# Altium footprint library digital.PcbLib: 2 footprints
Each footprint in its own frame and in the unit in brackets; x right, y up, seen from the top. Pads: shape width x height; smd on the part's side, far side on the other; paste and mask are expansions set on the pad; w line width, h text height; cw(c..) or ccw(c..) is an arc to the next point about the centre after c.
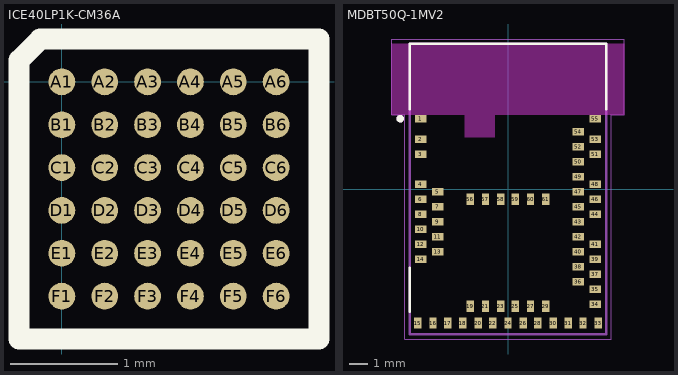
[diagram p0: the footprints below, top view; thin cyan lines are the x and y axes]

## ICE40LP1K-CM36A [mm]
pads (36):
  round 0.25 smd mask+0: A1(0,0) A2(0.4,0) A3(0.8,0) A4(1.2,0) A5(1.6,0) A6(2,0) B1(0,-0.4) B2(0.4,-0.4) B3(0.8,-0.4) B4(1.2,-0.4) B5(1.6,-0.4) B6(2,-0.4) C1(0,-0.8) C2(0.4,-0.8) C3(0.8,-0.8) C4(1.2,-0.8) C5(1.6,-0.8) C6(2,-0.8) D1(0,-1.2) D2(0.4,-1.2) D3(0.8,-1.2) D4(1.2,-1.2) D5(1.6,-1.2) D6(2,-1.2) E1(0,-1.6) E2(0.4,-1.6) E3(0.8,-1.6) E4(1.2,-1.6) E5(1.6,-1.6) E6(2,-1.6) F1(0,-2) F2(0.4,-2) F3(0.8,-2) F4(1.2,-2) F5(1.6,-2) F6(2,-2)
Top Overlay:
  lines w0.2: -0.4,-2.4 -0.4,0.2 -0.2,0.4 2.4,0.4 2.4,-2.4 -0.4,-2.4

## MDBT50Q-1MV2 [mm] "Embedded 2.4GHz transceiver support Bluetooth V5.0 and 802.15.4"
pads (61):
  rect 0.6x0.4 smd: 1(-4.65,3.75) 2(-4.65,2.65) 3(-4.65,1.85) 4(-4.65,0.25) 5(-3.75,-0.15) 6(-4.65,-0.55) 7(-3.75,-0.95) 8(-4.65,-1.35) 9(-3.75,-1.75) 10(-4.65,-2.15) 11(-3.75,-2.55) 12(-4.65,-2.95) 13(-3.75,-3.35) 14(-4.65,-3.75) 34(4.65,-6.15) 35(4.65,-5.35) 36(3.75,-4.95) 37(4.65,-4.55) 38(3.75,-4.15) 39(4.65,-3.75) 40(3.75,-3.35) 41(4.65,-2.95) 42(3.75,-2.55) 43(3.75,-1.75) 44(4.65,-1.35) 45(3.75,-0.95) 46(4.65,-0.55) 47(3.75,-0.15) 48(4.65,0.25) 49(3.75,0.65) 50(3.75,1.45) 51(4.65,1.85) 52(3.75,2.25) 53(4.65,2.65) 54(3.75,3.05) 55(4.65,3.75)
  rect 0.4x0.6 smd: 15(-4.8,-7.15) 16(-4,-7.15) 17(-3.2,-7.15) 18(-2.4,-7.15) 19(-2,-6.25) 20(-1.6,-7.15) 21(-1.2,-6.25) 22(-0.8,-7.15) 23(-0.4,-6.25) 24(0,-7.15) 25(0.4,-6.25) 26(0.8,-7.15) 27(1.2,-6.25) 28(1.6,-7.15) 29(2,-6.25) 30(2.4,-7.15) 31(3.2,-7.15) 32(4,-7.15) 33(4.8,-7.15) 56(-2,-0.55) 57(-1.2,-0.55) 58(-0.4,-0.55) 59(0.4,-0.55) 60(1.2,-0.55) 61(2,-0.55)
Top Overlay:
  circle w0.2: c-5.75,3.75 r0.1
  lines w0.127: -5.25,-6.55 -5.25,-4.2 ; -5.25,4.25 -5.25,7.75 5.25,7.75 5.25,4.25
Keep-Out Layer:
  region: 6.2,3.95 -6.2,3.95 -6.2,7.75 6.2,7.75
  region: -0.7,2.75 -2.3,2.75 -2.3,3.95 -0.7,3.95
  region: 6.2,3.95 -6.2,3.95 -6.2,7.75 6.2,7.75
  region: 6.2,3.95 -6.2,3.95 -6.2,7.75 6.2,7.75
  region: -0.7,2.75 -2.3,2.75 -2.3,3.95 -0.7,3.95
Mechanical 13:
  circle w0.2: c-5.75,3.75 r0.1
  lines w0.127: -5.25,-7.75 -5.25,7.75 5.25,7.75 5.25,-7.75 -5.25,-7.75
Mechanical 15:
  lines w0.05: -6.2,3.95 -6.2,8 6.2,8 6.2,3.95 5.5,3.95 5.5,-8 -5.5,-8 -5.5,3.95 -6.2,3.95